# Altium footprint library misc.PcbLib: 12 footprints
Each footprint in its own frame and in the unit in brackets; x right, y up, seen from the top. Pads: shape width x height; smd on the part's side, far side on the other; paste and mask are expansions set on the pad; w line width, h text height; cw(c..) or ccw(c..) is an arc to the next point about the centre after c.
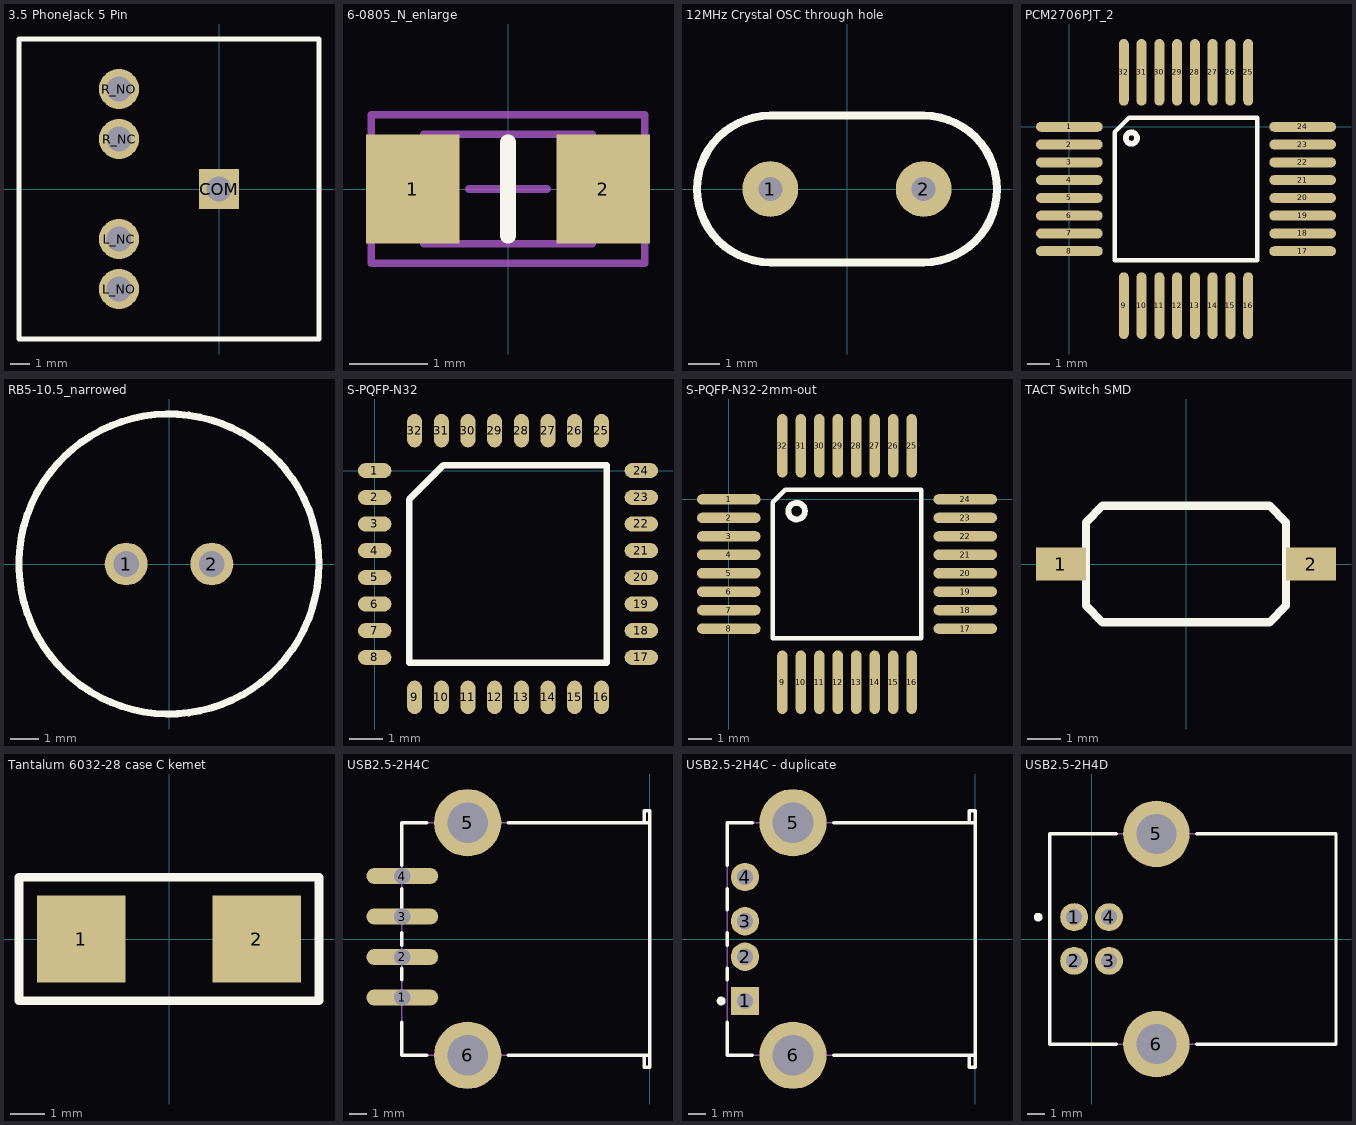
[diagram p0: the footprints below, top view; thin cyan lines are the x and y axes]

## 3.5 PhoneJack 5 Pin [mil] "3.5 PhoneJack 5 Pin"
pads (5):
  rect 80x80 hole 50: COM(0,0)
  round 80 hole 50: L_NC(-200,-100) L_NO(-200,-200) R_NC(-200,100) R_NO(-200,200)
Top Overlay:
  lines w10: -400,-300 -400,300 200,300 200,-300 -400,-300

## 6-0805_N_enlarge [mm] "Chip Resistor, Body 2.0x1.2mm, IPC Medium Density"
height 0.7
pads (2):
  rect 1.2x1.4 smd: 1(-1.219,0) 2(1.219,0)
Top Overlay:
  lines w0.2: 0,-0.6 0,0.6
Mechanical 13:
  lines w0.1: -1.075,-0.7 1.075,-0.7 1.075,0.7 -1.075,0.7 -1.075,-0.7
Mechanical 15:
  lines w0.1: -0.5,0 0.5,0 ; 0,-0.5 0,0.5 ; -1.75,-0.95 1.75,-0.95 1.75,0.95 -1.75,0.95 -1.75,-0.95
3D body: height 0.7, standoff 0, extent -1.075,-0.7 1.075,0.7

## 12MHz Crystal OSC through hole [mil]
pads (2):
  round 70 hole 30: 1(-96.06,0) 2(96.06,0)
Top Overlay:
  lines w10: -96.06,-91.73 cw(c-96.06,0) -96.06,91.73 96.06,91.73 cw(c96.06,0) 96.06,-91.73 -96.06,-91.73

## PCM2706PJT_2 [mm]
pads (32):
  oval 3x0.45 smd: 1(0,0) 2(0,-0.8) 3(0,-1.6) 4(0,-2.4) 5(0,-3.2) 6(0,-4) 7(0,-4.8) 8(0,-5.6) 17(10.5,-5.6) 18(10.5,-4.8) 19(10.5,-4) 20(10.5,-3.2) 21(10.5,-2.4) 22(10.5,-1.6) 23(10.5,-0.8) 24(10.5,0)
  oval 0.45x3 smd: 9(2.45,-8.05) 10(3.25,-8.05) 11(4.05,-8.05) 12(4.85,-8.05) 13(5.65,-8.05) 14(6.45,-8.05) 15(7.25,-8.05) 16(8.05,-8.05) 25(8.05,2.45) 26(7.25,2.45) 27(6.45,2.45) 28(5.65,2.45) 29(4.85,2.45) 30(4.05,2.45) 31(3.25,2.45) 32(2.45,2.45)
Top Overlay:
  circle w0.254: c2.794,-0.508 r0.254
  lines w0.2: 2.035,-6.015 2.035,-0.251 2.701,0.415 8.465,0.415 8.465,-6.015 2.035,-6.015

## RB5-10.5_narrowed [mm] "Capacitor (Radial); 2 Leads"
pads (2):
  round 1.5 hole 0.9: 1(-1.5,0) 2(1.5,0)
Top Overlay:
  circle w0.25: c0,0 r5.25
Mechanical 1:
  circle w0.02: c0,0 r5.25

## S-PQFP-N32 [mm]
pads (32):
  oval 1x0.45 smd: 1(0,0) 2(0,-0.8) 3(0,-1.6) 4(0,-2.4) 5(0,-3.2) 6(0,-4) 7(0,-4.8) 8(0,-5.6) 17(8,-5.6) 18(8,-4.8) 19(8,-4) 20(8,-3.2) 21(8,-2.4) 22(8,-1.6) 23(8,-0.8) 24(8,0)
  oval 0.45x1 smd: 9(1.2,-6.8) 10(2,-6.8) 11(2.8,-6.8) 12(3.6,-6.8) 13(4.4,-6.8) 14(5.2,-6.8) 15(6,-6.8) 16(6.8,-6.8) 25(6.8,1.2) 26(6,1.2) 27(5.2,1.2) 28(4.4,1.2) 29(3.6,1.2) 30(2.8,1.2) 31(2,1.2) 32(1.2,1.2)
Top Overlay:
  lines w0.2: 1.035,-5.765 1.035,-0.87 2.07,0.165 6.965,0.165 6.965,-5.765 1.035,-5.765

## S-PQFP-N32-2mm-out [mm]
pads (32):
  oval 2.75x0.45 smd: 1(0,0) 2(0,-0.8) 3(0,-1.6) 4(0,-2.4) 5(0,-3.2) 6(0,-4) 7(0,-4.8) 8(0,-5.6) 17(10.25,-5.6) 18(10.25,-4.8) 19(10.25,-4) 20(10.25,-3.2) 21(10.25,-2.4) 22(10.25,-1.6) 23(10.25,-0.8) 24(10.25,0)
  oval 0.45x2.75 smd: 9(2.325,-7.925) 10(3.125,-7.925) 11(3.925,-7.925) 12(4.725,-7.925) 13(5.525,-7.925) 14(6.325,-7.925) 15(7.125,-7.925) 16(7.925,-7.925) 25(7.925,2.325) 26(7.125,2.325) 27(6.325,2.325) 28(5.525,2.325) 29(4.725,2.325) 30(3.925,2.325) 31(3.125,2.325) 32(2.325,2.325)
Top Overlay:
  circle w0.254: c2.943,-0.508 r0.359
  lines w0.2: 1.91,-6.015 1.91,-0.122 2.447,0.415 8.34,0.415 8.34,-6.015 1.91,-6.015

## TACT Switch SMD [mm]
pads (2):
  rect 1.5x1 smd: 1(-3.75,0) 2(3.75,0)
Top Overlay:
  lines w0.254: -3,-1.25 -3,-0.5 -3,0.5 -3,1.25 -2.5,1.75 2.5,1.75 3,1.25 3,-1.25 2.5,-1.75 -2.5,-1.75 -3,-1.25

## Tantalum 6032-28 case C kemet [mm]
pads (2):
  rect 2.55x2.5 smd: 1(-2.525,0) 2(2.525,0)
Top Overlay:
  lines w0.254: -4.318,-1.778 -4.318,1.778 4.318,1.778 4.318,-1.778 -4.318,-1.778

## USB2.5-2H4C [mm] "Connector; USB1.1, Type A, Thru-Hole; 4 Position; Right Angle"
height 7.01
pads (6):
  oval 4.064x0.889 hole 0.92: 1(-13.97,-3.302) 2(-13.97,-1.016) 3(-13.97,1.27) 4(-13.97,3.556)
  round 3.8 hole 2.3: 5(-10.28,6.57) 6(-10.28,-6.57)
Top Overlay:
  circle w0.25: c-14.34,-3.246 r0.125
  lines w0.2: -14,-4.7 -14,-6.565 -12.58,-6.565 ; -14,-2.3 -14,-1.66 ; -14,-0.34 -14,0.34 ; -14,1.66 -14,2.84 ; -14,4.16 -14,6.565 -12.58,6.565 ; -7.98,-6.565 0,-6.565 ; -7.98,6.565 0,6.565 ; -0.32,-6.565 -0.32,-7.25 0,-7.25 0,-6.565 ; -0.32,6.565 -0.32,7.25 0,7.25 0,6.565 ; 0,-6.565 0,6.565
Mechanical 13:
  lines w0.1: -14,-6.565 -14,6.565 -0.32,6.565 -0.32,7.25 0,7.25 0,-7.25 -0.32,-7.25 -0.32,-6.565 -14,-6.565
3D body: height 7.01, standoff 0, extent -13.999,-7.249 -0.001,7.249

## USB2.5-2H4C - duplicate [mm] "Connector; USB1.1, Type A, Thru-Hole; 4 Position; Right Angle"
height 7.01
pads (6):
  rect 1.6x1.6 hole 0.92: 1(-12.99,-3.5)
  round 1.6 hole 0.92: 2(-12.99,-1) 3(-12.99,1) 4(-12.99,3.5)
  round 3.8 hole 2.3: 5(-10.28,6.57) 6(-10.28,-6.57)
Top Overlay:
  circle w0.25: c-14.34,-3.5 r0.125
  lines w0.2: -14,-4.7 -14,-6.565 -12.58,-6.565 ; -14,-2.3 -14,-1.66 ; -14,-0.34 -14,0.34 ; -14,1.66 -14,2.84 ; -14,4.16 -14,6.565 -12.58,6.565 ; -7.98,-6.565 0,-6.565 ; -7.98,6.565 0,6.565 ; -0.32,-6.565 -0.32,-7.25 0,-7.25 0,-6.565 ; -0.32,6.565 -0.32,7.25 0,7.25 0,6.565 ; 0,-6.565 0,6.565
Mechanical 13:
  lines w0.1: -14,-6.565 -14,6.565 -0.32,6.565 -0.32,7.25 0,7.25 0,-7.25 -0.32,-7.25 -0.32,-6.565 -14,-6.565
3D body: height 7.01, standoff 0, extent -13.999,-7.249 -0.001,7.249

## USB2.5-2H4D [mm] "Connector; USB1.1, Type B, Thru-Hole; 4 Position; Right Angle"
height 11.1
pads (6):
  round 1.6 hole 0.92: 1(-1,1.25) 2(-1,-1.25) 3(1,-1.25) 4(1,1.25)
  round 3.8 hole 2.3: 5(3.71,6.02) 6(3.71,-6.02)
Top Overlay:
  circle w0.25: c-3.06,1.25 r0.125
  lines w0.2: 1.41,-6.02 -2.41,-6.02 -2.41,6.02 1.41,6.02 ; 6.01,-6.02 13.99,-6.02 13.99,6.02 6.01,6.02
Mechanical 13:
  lines w0.1: -2.41,-6.02 -2.41,6.02 13.99,6.02 13.99,-6.02 -2.41,-6.02
3D body: height 11.1, standoff 0, extent -2.41,-6.02 13.99,6.02